# Altium schematic symbol library EDVDU_1.SCHLIB: 42 symbols
Pins are listed as number, name and electrical type; pins without a type are passive.

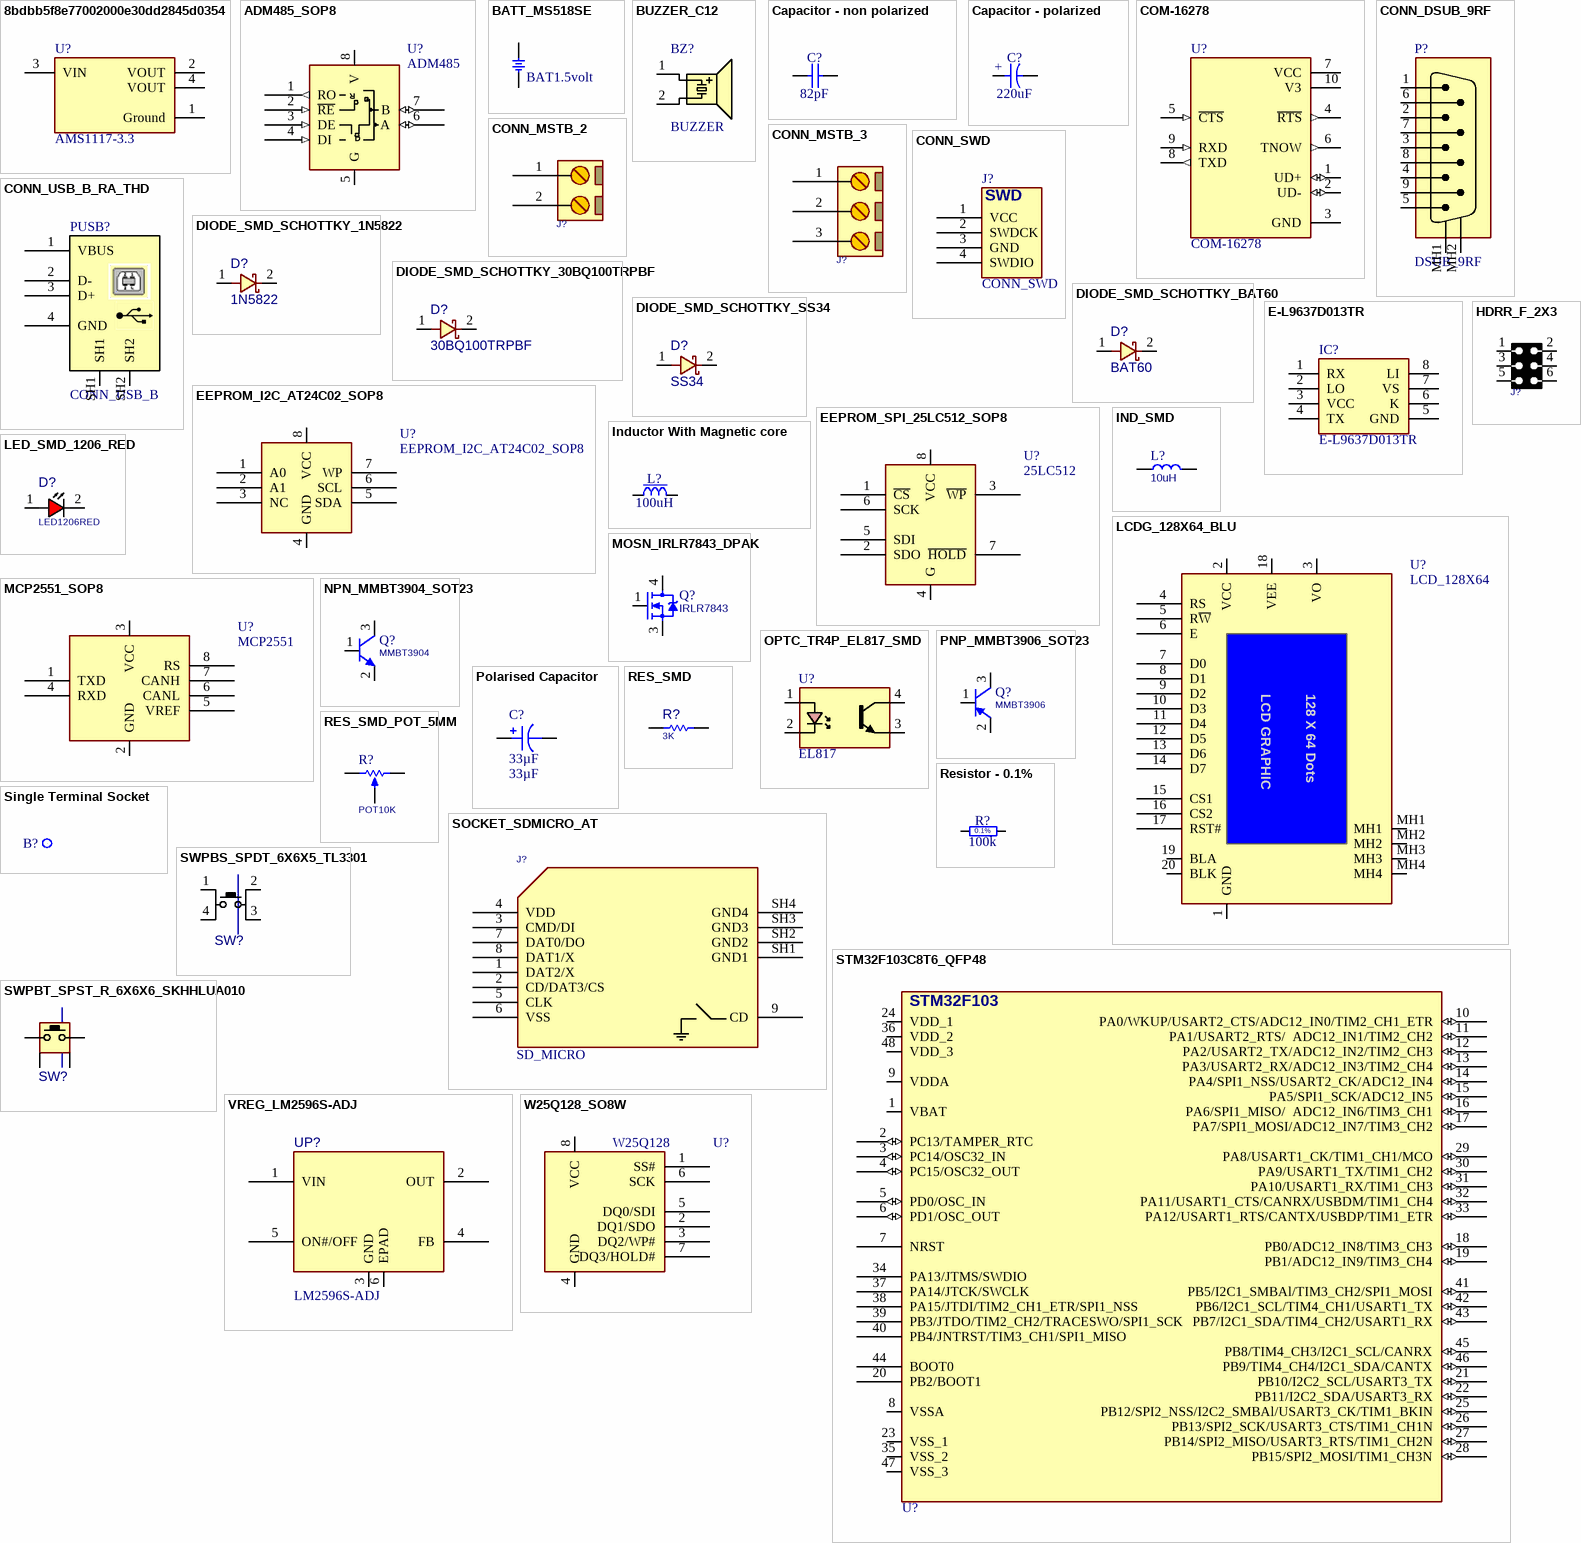
[diagram p0: symbols 8bdbb5f8e77002000e30dd2845d0354 to W25Q128_SO8W]

## 8bdbb5f8e77002000e30dd2845d0354
designator U?, comment AMS1117-3.3
LDO Voltage Regulators 1A, 3.3V; Manufacturer: Advanced Monolithic Systems; Dropout Voltage: 1.1V; Output Type: Fixed; Nominal Supply Current: 5mA; Max Power Dissipation: 1.2W; Max Supply Voltage: 15V; Number Of Outputs: 1; Standoff Height: 0.64mm; Max Junction Temp: +125°C; Height: 1.8mm; Package: AMS1117; Device Class L2: Power Management ICs; ComponentLink2Description: Datasheet; ComponentLink2URL: http://www.advanced-monolithic.com/pdf/ds1117.pdf; Category: IC; RoHS: TRUE; Automotive: No; Device Class L1: Integrated Circuits (ICs); Output Current: 1A; Device Class L3: Voltage Regulators - Linear; Temperature: -40°C to +125°C; Output Voltage: 3.3V; Manufacturer Part Number: AMS1117-3.3; Temperature Range Low: -40°C; Octopart: https://octopart.com/ams1117-3.3-advanced+monolithic+systems-25899300; Lead Free: Yes; Ipc Land Pattern Name: SOT229P700X180-4; Temperature Range High: +125°C
footprint FP-AMS1117-IPC_B
footprint FP-AMS1117-IPC_C
footprint FP-AMS1117-IPC_A
pins: 1 Ground (power), 2 VOUT, 3 VIN (power), 4 VOUT

## ADM485_SOP8
designator U?, comment ADM485
RS485 Transceiver, 5V, SOP-8, ±7V Ground Difference Between Devices on the Bus; MANF_P#: ADM485AR; MANF: Analog Devices; PRICE: 4000toman@PAYA; VALUE: ADM485
footprint SO_8
pins: 1 RO (out), 2 ~{RE} (in), 3 DE (in), 4 DI (in), 5 G, 6 A (io), 7 B (io), 8 V
text: R; D

## BATT_MS518SE
designator BT?, comment BAT1.5volt
BATTERY HOLDER, MS518SE TS518FE; MANF_P#: MS518SE-FL35E; MANF_P#2: TS518FE-FL35E; MANF: SEIKO; VALUE: BAT1.5volt
footprint BT_TS518FE_FL35E (MS518FE TS518FE FL35E SEIKO BATTERY)
pins: 1, 2

## BUZZER_C12
designator BZ?, comment BUZZER
Buzzer, 12X8.5mm, Magnetic Transducer; MANF: Buerklin, CUI; MANF_P#: CM12P, MT03-H1BHP, BMT1205XH7.5, CEM-1201(50); PARAM: 2048 ±200 Hz; PRICE: PRICE; VALUE: BUZZER
footprint BZ_C12 (BUZZER 12mm DIA, 8.5mm Height , 7.62mm pitch)
pins: 1 A, 2 B

## Capacitor - non polarized
designator C?, comment 82pF
Non-polarised capacitor; Part Number: CC1206_82PF_50V_5%_NP0; Part Description: SMD Multilayer Chip Ceramic Capacitor; Manufacturer: GENERIC; Manufacturer1 Part Number: VJ1206A820JXAAT; Voltage: 50V; TC: C0G/NP0; Tolerance: ±5%; Value: 82pF; Component Kind: Standard; Component Type: Standard; Footprint: CAPC3216X140N; Pin Count: 2; Status: Preferred; Manufacturer Part Number: CC1206_82PF_50V_5%_NP0; Case: 1206; Mounted: Yes; Socket: No; SMD: Yes; Sense: No; Manufacturer1 Example: VISHAY VITRAMON; Manufacturer1 ComponentHeight: 1.7mm; HelpURL: \\cern.ch\dfs\Applications\Altium\Datasheets\CC1206_NP0_VISHAY_VJ.pdf; Author: CERN DEM JLC; CreateDate: 12/3/2007; LatestRevisionDate: 12/3/2007
footprint CAPC3216X140N
pins: 1, 2

## Capacitor - polarized
designator C?, comment 220uF
Polarised capacitor; Part Number: CTE7343-43_47UF_35V_10%; Part Description: Solid Tantalum Chip Capacitor; Manufacturer: GENERIC; Manufacturer1 Part Number: TAJE476K035R; Value: 47uF; Voltage: 35V; Tolerance: ±10%; Component Kind: Standard; Component Type: Standard; Footprint: CAPMP7343X430N; Pin Count: 2; Status: Preferred; Manufacturer Part Number: CTE7343-43_47UF_35V_10%; Case: E; Mounted: Yes; Socket: No; SMD: Yes; Sense: No; Manufacturer1 Example: AVX; Manufacturer1 ComponentHeight: 4.3mm; HelpURL: \\cern.ch\dfs\Applications\Altium\Datasheets\CTE_AVX_TAJ.pdf; Author: CERN DEM JLC; CreateDate: 12/3/2007; LatestRevisionDate: 12/3/2007
footprint CAPMP7343X430N
pins: 1, 2
text: +

## COM-16278
designator U?
SparkFun Accessories USB to Serial IC - CH340E (10 Pack); MP: COM-16278; Purchase-URL: https://pricing.snapeda.com/search/part/COM-16278/?ref=eda; Price: None; SnapEDA_Link: https://www.snapeda.com/parts/COM-16278/SparkFun/view-part/?ref=snap; Check_prices: https://www.snapeda.com/parts/COM-16278/SparkFun/view-part/?ref=eda; Package: None; MF: SparkFun; Availability: In Stock; Value: *
footprint SOP50P490X120-10N
pins: 1 UD+ (io), 2 UD- (io), 3 GND (power), 4 ~{RTS} (out), 5 ~{CTS} (in), 6 TNOW (out), 7 VCC (power), 8 TXD (out), 9 RXD (in), 10 V3 (power)

## CONN_DSUB_9RF
designator P?, comment DSUB_9RF
CONN, DSUB, HD, 9PIN, R/A, FEMALE, THD; MANF_P#: -; MANF: -; VALUE: DSUB_9RF
footprint DSUB_9RF (CONN, DSUB MINIATURE, 9PIN, R/A, FEMALE)
pins: 1, 2, 3, 4, 5, 6, 7, 8, 9, MH1, MH2

## CONN_MSTB_2
designator J?, comment CONN_MSTB2  (value not drawn)
CONN, PHOENIX MSTB 2.5/2-GF-5.08; VALUE: CONN_MSTB2; MANF_P#: MSTB 2.5/2-GF-5.08
footprint MSTB_2 (PHOENIX MSTB 2, 5-G, 5.08mm pitch, 2pin)
pins: 1, 2

## CONN_MSTB_3
designator J?, comment CONN_MSTB3  (value not drawn)
CONN, PHOENIX MSTB 2.5/3-GF-5.08; VALUE: CONN_MSTB3; MANF_P#: MSTB 2.5/3-GF-5.08
footprint MSTB_3 (PHOENIX MSTB 2, 5-G, 5.08mm pitch, 3pin)
pins: 1, 2, 3

## CONN_SWD
designator J?
CONN, SWD, ST; VALUE: CONN_SWD
footprint WF_4 (DS1070  WF, Cvilux CI31 pitch 2.54mm)
pins: 1 VCC, 2 SWDCK, 3 GND, 4 SWDIO
text: SWD

## CONN_USB_B_RA_THD
designator PUSB?, comment CONN_USB_B
CONN, USB, B, R/A, THD; MANF_P#: 292304-1; MANF: TE Connectivity; VALUE: CONN_USB_B
footprint USB_B_RA_THD (CONN, USB B, Receptacle, RIGHT ANGLE, THD)
pins: 1 VBUS (power), 2 D-, 3 D+, 4 GND (power), SH1, SH2

## DIODE_SMD_SCHOTTKY_1N5822
designator D?, comment 1N5822
DIODE, SCHOTTKY, 40V, 3A; MANF: DIODES; DESC: DESCRIPTION; MANF_P#: 1N5822; ASSEMBLY: ASSEMBLY; PRICE: PRICE; PARAM2: 3A; PARAM: 40V; VALUE: 1N5822
footprint D_SMA (SMA Molded Diode, 2-Leads, Body 4.3x2.7mm)
pins: 1, 2

## DIODE_SMD_SCHOTTKY_30BQ100TRPBF
designator D?, comment 30BQ100TRPBF
DIODE, SCHOTTKY, 100V, 3A; MANF: Vishay; DESC: DESCRIPTION; MANF_P#: 30BQ100TRPBF; ASSEMBLY: ASSEMBLY; PRICE: PRICE; PARAM2: 3A; PARAM: 100V; VALUE: 30BQ100TRPBF
footprint D_SMC (SMC, Molded Diode, 7.0x6.0mm)
pins: 1, 2

## DIODE_SMD_SCHOTTKY_BAT60
designator D?, comment BAT60
DIODE, SCHOTTKY, 10V, 3A, 0.3Vf; MANF: Infineon; MANF_P#: BAT60AE6327HTSA1; DESC: DESCRIPTION; PARAM2: VFdrop: 0.1V@10mA, 0.22V@1A; PARAM: 3A, 1.35W, -55~85oC; ASSEMBLY: ASSEMBLY; PRICE: 0.4$; VALUE: BAT60
footprint D_SOD323F (DIODE0805, SOD323 (PHILIPS), SC-76 (JEITA), DL-35)
pins: 1, 2

## DIODE_SMD_SCHOTTKY_SS34
designator D?, comment SS34
DIODE, SCHOTTKY, 20V, 3A; MANF: VISHAY; DESC: DESCRIPTION; MANF_P#: SS34; ASSEMBLY: ASSEMBLY; PRICE: PRICE; PARAM2: 3A; PARAM: 20V; VALUE: SS34
footprint D_SMB (SMB Molded Diode, 2-Leads, Body 4.3x3.5mm)
pins: 1, 2

## E-L9637D013TR
designator IC?
Integrated Circuit; Manufacturer_Name: STMicroelectronics; Datasheet Link: http://www.st.com/web/en/resource/technical/document/datasheet/CD00000234.pdf; Height: 1.75mm; Manufacturer_Part_Number: E-L9637D013TR; Mouser Part Number: 511-E-L9637D013TR; Mouser Price/Stock: https://www.mouser.co.uk/ProductDetail/STMicroelectronics/E-L9637D013TR?qs=lrqjml%252Bjt8c%252BkvHgz14nAg%3D%3D; Arrow Part Number: E-L9637D013TR; Arrow Price/Stock: https://www.arrow.com/en/products/e-l9637d013tr/stmicroelectronics?region=nac
footprint SOIC127P600X175-8N
pins: 1 RX, 2 LO, 3 VCC, 4 TX, 5 GND, 6 K, 7 VS, 8 LI

## EEPROM_I2C_AT24C02_SOP8
designator U?
EEPROM, I2C; VALUE: AT24C02
footprint SO_8
pins: 1 A0, 2 A1, 3 NC, 4 GND, 5 SDA, 6 SCL, 7 WP, 8 VCC

## EEPROM_SPI_25LC512_SOP8
designator U?, comment 25LC512
EEPROM, SPI, 512kbit (64K x8), SOP-8; MANF: Microchip; MANF_P#: 25LC512-E/SN; PARAM2: 2.5~5.5V, 200Year, 20MHz; PARAM: 512kbit (64K x8), -40~125oC; PRICE: 2$; VALUE: 25LC512
footprint SO_8
pins: 1 ~{CS}, 2 SDO, 3 ~{WP}, 4 G, 5 SDI, 6 SCK, 7 ~{HOLD}, 8 VCC

## HDRR_F_2X3
designator J?, comment HDRF_2X3  (value not drawn)
CONN, HEADER, RightAngle, Female, pitch: 2.54mm, 6POS; MANF_P#: MANF_PART#; MANF: MANF; VALUE: HDRF_2X3
footprint HDRR_F_2X3 (Connector; Header; 3x2 Position)
pins: 1, 2, 3, 4, 5, 6

## IND_SMD
designator L?, comment 10uH
IND, SMD; VALUE: 10uH
footprint L0603 (INDUCTOR, FERRITE BEAD, 0603, 1.6X0.8mm)
footprint L0805 (INDUCTOR, FERRITE BEAD, 0805, 2.0X1.3mm)
footprint L1206 (INDUCTOR, FERRITE BEAD, 1206, 3.2X1.6mm)
pins: 1, 2

## Inductor With Magnetic core
designator L?, comment 100uH
Inductor With Core; Part Number: IND_100UH_20%_WURTH_WE-PD_7447709101; Part Description: Power-Choke Inductor (WE-PD Series); Manufacturer: WURTH ELEKTRONIK; Manufacturer Part Number: 7447709101; Power: 2.5A; Resistance: 0.1R; Tolerance: ±20%; Component Kind: Standard; Component Type: Standard; Footprint: IND_WURTH_WE-PD_XXL; Pin Count: 2; Value: 100uH; Status: None; Mounted: Yes; Socket: No; SMD: Yes; Sense: No; ComponentHeight: 10mm; HelpURL: \\cern.ch\dfs\Applications\Altium\Datasheets\IND_WURTH_WE-PD_7447709101.pdf; Author: CERN DEM JLC; CreateDate: 3/15/2012; LatestRevisionDate: 3/15/2012
footprint IND_WURTH_WE-PD_XXL
pins: 1, 2

## LCDG_128X64_BLU
designator U?, comment LCD_128X64
LCD Graphic Disp, 128X64, with KS108 Controller; MANF_P#: TS12864A-2, LCD12864A, GDM12864A; PARAM2: Green back, Gray, 5V; PARAM: 128X64 Dots, 2.9"; MANF: -; VALUE: LCD_128X64
footprint LCDG_128X64_BLU (LCD Graphic Disp, 128X64, TS12864A-2)
pins: 1 GND, 2 VCC, 3 VO, 4 RS, 5 R~{W}, 6 E, 7 D0, 8 D1, 9 D2, 10 D3, 11 D4, 12 D5, 13 D6, 14 D7, 15 CS1, 16 CS2, 17 RST#, 18 VEE, 19 BLA, 20 BLK, MH1, MH2, MH3, MH4
text: LCD GRAPHIC; 128 X 64 Dots

## LED_SMD_1206_RED
designator D?, comment LED1206RED
LED, SMD, 1206, RED; DESC: DESCRIPTION; MANF_P#: MANF_PART#; PARAM2: 2.2V; MANF: MANF; ASSEMBLY: ASSEMBLY; PRICE: 36t@Javan; VALUE: LED1206RED
footprint LED1206RED (LED, 1206, RED)
pins: 1 ANODE, 2 CATHODE

## MCP2551_SOP8
designator U?, comment MCP2551
Can, Transceiver, High Speed, 5V (VDD); MANF: MICROCHIP; MANF_P#: MCP2551-I/SN; PARAM2: 5V (VDD), 12/24V; PRICE: 3000toman@PAYA; PARAM: PARAM; VALUE: MCP2551
footprint SO_8
pins: 1 TXD, 2 GND, 3 VCC, 4 RXD, 5 VREF, 6 CANL, 7 CANH, 8 RS

## MOSN_IRLR7843_DPAK
designator Q?, comment IRLR7843
HEXFET Power MOSFET; ASSEMBLY: ASSEMBLY; MANF_P#: IRLR7843; VALUE: IRLR7843
footprint DPAK_3 (D-PAK (TO-252), 3-Pads, Body 6.2x6.7mm)
pins: 1 G, 3 S, 4 D

## NPN_MMBT3904_SOT23
designator Q?, comment MMBT3904
BJT, NPN, 40v, 0.2A, SMD, SOT23; PARAM2: 250mW; MANF: Diodes, NXP, FAIRCHILD, ON; PARAM: 40v, 0.2A; MANF_P#: MMBT3904; VALUE: MMBT3904
footprint SOT23_3 (SOT-23, Micro3, MO-178, TO-236AB, MO-193C, SuperSOT3, SC-59, DSO190_3_300X150)
simulation model NS3904
pins: 1 B, 2 E, 3 C

## OPTC_TR4P_EL817_SMD
designator U?, comment EL817
OPTOCOUPLER, TRANSISTOR, 4PIN; PARAM: IF=5mA; PARAM2: VCE = 5V; PRICE: 300t@Paya; VALUE: EL817
footprint DIP_4SMD (DIP4, pitch 2.54mm, 300mil Width SMD)
pins: 1 A "Anode", 2 K "Cathode", 3 E "Emitter", 4 C "Collector"

## PNP_MMBT3906_SOT23
designator Q?, comment MMBT3906
BJT, PNP, 40v, 0.2A, SMD, SOT23; PARAM2: 250mW; MANF: Diodes, NXP, FAIRCHILD, ON; PARAM: 40v, 0.2A; MANF_P#: MMBT3906; VALUE: MMBT3906
footprint SOT23_3 (SOT-23, Micro3, MO-178, TO-236AB, MO-193C, SuperSOT3, SC-59, DSO190_3_300X150)
simulation model NS3904
pins: 1 B, 2 E, 3 C

## Polarised Capacitor
designator C?, comment 33µF
CAP TANT POLY 33UF 10V 1206; Part Number: T527I336M010ATE200; Value: 33µF
footprint CAP POL 1206_3216
pins: 1, 2

## RES_SMD
designator R?, comment 3K
RES, SMD; MANF_P#: RK73H1ETTP4701F; MANF: KOA SPEER; PARAM: 0.063W; DESC: DESCRIPTION; DIST#: MOUSER; PARAM2: 1%; ASSEMBLY: ASSEMBLY; PRICE: 100= 0.5$; VALUE: 3K
footprint R0402 (CHIP Resistor 1/16 WATT, 1.0X0.5mm, 0402, 1005)
footprint R0603 (CHIP Resistor 1/10 WATT, 1.6x0.8mm, 0603, 1608)
footprint R0805 (CHIP RESISTOR 1/8 WATT ,2.0X1.3mm, 0805, 2012)
footprint R1206 (CHIP RESISTOR 1/4 WATT, Body 3.2x1.6mm,1206, 3216)
footprint R2512 (CHIP RESISTOR 1 WATT, 6.4X3.2mm, 2512, 6432)
footprint R2010 (CHIP RESISTOR 3/4 WATT, 5.1x3mm, 2010, 5025)
footprint R1210 (CHIP RESISTOR 1/2 WATT, Body 3.2x2.5mm,1210, 3225)
pins: 1, 2

## RES_SMD_POT_5MM
designator R?, comment POT10K
RESISTOR, SMD, Potentiometer, 5mm; VALUE: POT10K
footprint POTS_5MM (POT SMD, 5.0X5.0mm, Trimming PVG5H)
pins: 1 TOP, 2 TAP, 3 BOT

## Resistor - 0.1%
designator R?, comment 100k
Resistor - 0.1%; Part Number: R1206_100K_0.1%_0.25W_25PPM; Part Description: Thin Film Chip Resistor; Manufacturer: GENERIC; Manufacturer1 Part Number: RN73H2BTTD1003B25; Power: 0.25W; TC: ±25ppm/°C; PressFit: No; Value: 100k; Component Kind: Standard; Component Type: Standard; Footprint: RESC3216X65N; Pin Count: 2; Status: Not Recommended; Tolerance: ±0.1%; Manufacturer Part Number: R1206_100K_0.1%_0.25W_25PPM; Case: 1206; Mounted: Yes; Sense: No; Socket: No; SMD: Yes; Manufacturer1 Example: KOA; Manufacturer1 ComponentHeight: 0.70mm; HelpURL: \\cern.ch\dfs\Applications\Altium\Datasheets\R1206_KOA_RN73H.pdf; Author: CERN DEM JLC; CreateDate: 12/3/2007; LatestRevisionDate: 3/13/2008
footprint RESC3216X65N
pins: 1, 2
text: 0.1%

## Single Terminal Socket
designator B?, comment Plated Hole  (value not drawn)  (no BOM)
Single Terminal Socket; Part Number: PLATED_HOLE3.2_PAD5.5; Part Description: Plated Through Hole: Hole Dia.=3.2mm Pad Dia.=5.5mm; Mounted: No; Component Type: Standard (No BOM); Footprint: MTG320_550; Pin Count: 1; Family: Plated Hole; Socket: No; SMD: No; Sense: No; Status: None; ComponentHeight: 0mm; HelpURL: Undefined; Author: CERN DEM JMW; CreateDate: 10/1/2012; LatestRevisionDate: 10/1/2012; PackageDescription: Plated Through Hole: Hole Dia.=3.2mm Pad Dia.=5.5mm
footprint MTG320_550
pins: 1 (io)

## SOCKET_SDMICRO_AT
designator J?, comment SD_MICRO
SD MICRO exist in Iran, Attend 112J-TDAR-R01; PARAM: push-push; MANF: Attend; MANF_P#: 112J-TDAR-R01; VALUE: SD_MICRO
footprint SDMICRO_AT (SDMICRO exist on Iran, Attend 112J-TDAR-R01)
pins: 1 DAT2/X, 2 CD/DAT3/CS, 3 CMD/DI, 4 VDD, 5 CLK, 6 VSS, 7 DAT0/DO, 8 DAT1/X, 9 CD, SH1 GND1, SH2 GND2, SH3 GND3, SH4 GND4

## STM32F103C8T6_QFP48
designator U?, comment STM32F103  (value not drawn)
MCU, STM32 ARM 32-bit, Cortex M3, 64KB FLASH, 20KB SRAM; DESC: CAN, I2C, SPI, USART, USB; MANF: ST; MANF_P#: STM32F103C8T6; PARAM2: 2~3.6VCC, 72MHz, 2X12Bit ADC; PARAM: 64KB FLASH, 20KB SRAM, -40~85oC; PRICE: 6$; VALUE: STM32F103
footprint QFG50_48 (LQFP48, PQFF, PQFG, TSQFP, 48-Leads, Body 7.00x7.00mm, Pitch 0.50mm)
pins: 1 VBAT, 2 PC13/TAMPER_RTC (io) "PC13-TAMPER-RTC/PC13/TAMPER-RTC", 3 PC14/OSC32_IN (io) "PC14-OSC32_IN/PC14/OSC32_IN", 4 PC15/OSC32_OUT (io) "PC15-OSC32_OUT/PC15/OSC32_OUT", 5 PD0/OSC_IN (io) "PD0/OSC_IN/CAN_RX", 6 PD1/OSC_OUT (io) "PD1/OSC_OUT/CAN_TX", 7 NRST, 8 VSSA, 9 VDDA, 10 PA0/WKUP/USART2_CTS/ADC12_IN0/TIM2_CH1_ETR (io) "PA0-WKUP/PA0/WKUP/USART2_CTS/ADC12_IN0/TIM2_CH1_ETR", 11 PA1/USART2_RTS/  ADC12_IN1/TIM2_CH2 (io) "PA1/USART2_RTS/ADC12_IN1/TIM2_CH2", 12 PA2/USART2_TX/ADC12_IN2/TIM2_CH3 (io), 13 PA3/USART2_RX/ADC12_IN3/TIM2_CH4 (io), 14 PA4/SPI1_NSS/USART2_CK/ADC12_IN4 (io), 15 PA5/SPI1_SCK/ADC12_IN5 (io), 16 PA6/SPI1_MISO/  ADC12_IN6/TIM3_CH1 (io) "PA6/SPI1_MISO/ADC12_IN6/TIM3_CH1/TIM1_BKIN", 17 PA7/SPI1_MOSI/ADC12_IN7/TIM3_CH2 (io) "PA7/SPI1_MOSI/ADC12_IN7/TIM3_CH2/TIM1_CH1N", 18 PB0/ADC12_IN8/TIM3_CH3 (io) "PB0/ADC12_IN8/TIM3_CH3/TIM1_CH2N", 19 PB1/ADC12_IN9/TIM3_CH4 (io) "PB1/ADC12_IN9/TIM3_CH4/TIM1_CH3N", 20 PB2/BOOT1, 21 PB10/I2C2_SCL/USART3_TX (io) "PB10/I2C2_SCL/USART3_TX/TIM2_CH3", 22 PB11/I2C2_SDA/USART3_RX (io) "PB11/I2C2_SDA/USART3_RX/TIM2_CH4", 23 VSS_1, 24 VDD_1, 25 PB12/SPI2_NSS/I2C2_SMBAl/USART3_CK/TIM1_BKIN (io), 26 PB13/SPI2_SCK/USART3_CTS/TIM1_CH1N (io), 27 PB14/SPI2_MISO/USART3_RTS/TIM1_CH2N (io), 28 PB15/SPI2_MOSI/TIM1_CH3N (io), 29 PA8/USART1_CK/TIM1_CH1/MCO (io), 30 PA9/USART1_TX/TIM1_CH2 (io), 31 PA10/USART1_RX/TIM1_CH3 (io), 32 PA11/USART1_CTS/CANRX/USBDM/TIM1_CH4 (io), 33 PA12/USART1_RTS/CANTX/USBDP/TIM1_ETR (io), 34 PA13/JTMS/SWDIO, 35 VSS_2, 36 VDD_2, 37 PA14/JTCK/SWCLK, 38 PA15/JTDI/TIM2_CH1_ETR/SPI1_NSS, 39 PB3/JTDO/TIM2_CH2/TRACESWO/SPI1_SCK, 40 PB4/JNTRST/TIM3_CH1/SPI1_MISO, 41 PB5/I2C1_SMBAl/TIM3_CH2/SPI1_MOSI (io) "PB5/I2C1_SMBAI/TIM3_CH2/SPI1_MOSI", 42 PB6/I2C1_SCL/TIM4_CH1/USART1_TX (io), 43 PB7/I2C1_SDA/TIM4_CH2/USART1_RX (io), 44 BOOT0, 45 PB8/TIM4_CH3/I2C1_SCL/CANRX (io), 46 PB9/TIM4_CH4/I2C1_SDA/CANTX (io), 47 VSS_3, 48 VDD_3

## SWPBS_SPDT_6X6X5_TL3301
designator SW?, comment PUSHBUTTON  (value not drawn)
SWITCH, PUSH BUTTON, TACTILE, SMD, SPDT, 6X6X5mm; MANF: ESWITCH; DESC: DESCRIPTION; MANF_P#: TL3301EF100QG; VALUE: PUSHBUTTON; ASSEMBLY: ASSEMBLY; PARAM: PARAM; PRICE: PRICE
footprint SWPBS_SPDT_6X6X5 (SWITCH, PUSHBUTTON, SMD, SPDT, 6X6mm 4PIN)
pins: 1 P1, 2 P3, 3 P4, 4 P2

## SWPBT_SPST_R_6X6X6_SKHHLUA010
designator SW?, comment PUSHBUTTON  (value not drawn)
SWITCH, PUSH BUTTON, TACTILE, THD, SPST, 6X6X6mm RIGHT; MANF: ALPS; DESC: DESCRIPTION; MANF_P#: SKHHLUA010; VALUE: PUSHBUTTON; ASSEMBLY: ASSEMBLY; PARAM: PARAM; PRICE: PRICE
footprint SWPBT_SPST_R_6X6X6 (Horizontal 6.0mm Square Type (Snap-in) SKHH Series; Stem length 5.85 mm ; 1,000,000 cycles ; 0.98N Force, SKHHLUA010)
pins: 1, 2, MH1, MH2

## VREG_LM2596S-ADJ
designator UP?, comment LM2596S-ADJ
REG, Switching, Buck, 3A, ADJ, 150KHz, TO-263; MANF: TI, ON, TS; PARAM: 3A, ADJ; PARAM2: 50KHz, 40VIN; ASSEMBLY: ASSEMBLY; PRICE: PRICE; DESC: REG, Switching, Buck, 3A, ADJ, 150KHz, TO-263; MANF_P#: LM2596S-ADJ; VALUE: LM2596S-ADJ
footprint D2PAK_5 (TO-263-5L, D2PAK-5, DDPAK, FMG170_5_S1000)
pins: 1 VIN (power), 2 OUT (power), 3 GND (power), 4 FB, 5 ON#/OFF, 6 EPAD

## W25Q128_SO8W
designator U?, comment W25Q128
SPI FLASH Memory, 128Mb (16M x8), 104MHz; MANF: WINBOND; MANF_P#: W25Q128FVSIG; PARAM2: 2.7~3.6V; PARAM: 128Mb (16M x8), 104MHz; PRICE: 1.6$; VALUE: W25Q128
footprint SO_8_W (SOIC WIDE, 5x5.3mm body 0.5mm pitch, 5.28mm SOIJ)
pins: 1 SS#, 2 DQ1/SDO, 3 DQ2/WP#, 4 GND, 5 DQ0/SDI, 6 SCK, 7 DQ3/HOLD#, 8 VCC

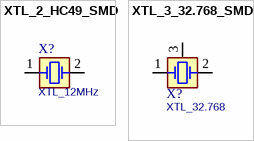
[diagram p1: symbols XTL_2_HC49_SMD to XTL_3_32.768_SMD]

## XTL_2_HC49_SMD
designator X?, comment XTL_12MHz
Crystal MOST POPULAR ABL HC49 PACKAGE; VALUE: XTL_12MHz
footprint XTL_2_11X5 (SMD crystal resonator, ABL, ABLS, HC-49, HC49 11X4.5MM)
pins: 1 OSC1, 2 OSC2

## XTL_3_32.768_SMD
designator X?, comment XTL_32.768
Crystal MOST POPULAR PACKAGE; MANF: ABRACON; MANF_P#: AB26T-32.768KHZ; PARAM2: 12pF; PARAM: 20PPM, -40~85°C; VALUE: XTL_32.768
footprint XTL_RTC
pins: 1 OSC1, 2 OSC2, 3 CASE